# Altium schematic symbol library Jack_ST-09G-0.SchLib: 1 symbol
Pins are listed as number, name and electrical type; pins without a type are passive.

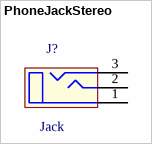
[diagram p0: symbol PhoneJackStereo]

## PhoneJackStereo
designator J?, comment Jack
Phonejack Stereo; 123: *
footprint ST-09G-0 (Stereo jack socket 3,5mm)
pins: 1 C, 2 L, 3 R